# Altium schematic symbol library OLED 0.96inch I2C didplay.SchLib: 1 symbol
Pins are listed as number, name and electrical type; pins without a type are passive.

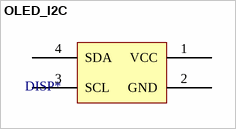
[diagram p0: symbol OLED_I2C]

## OLED_I2C
designator DISP*, comment 0.96'' OLED I2C  (value not drawn)
footprint OLED_I2C (0.96'' OLED I2C)
pins: 1 VCC, 2 GND, 3 SCL, 4 SDA